# EAGLE library part INTEL_JOULE_J7 (library joule_shield)
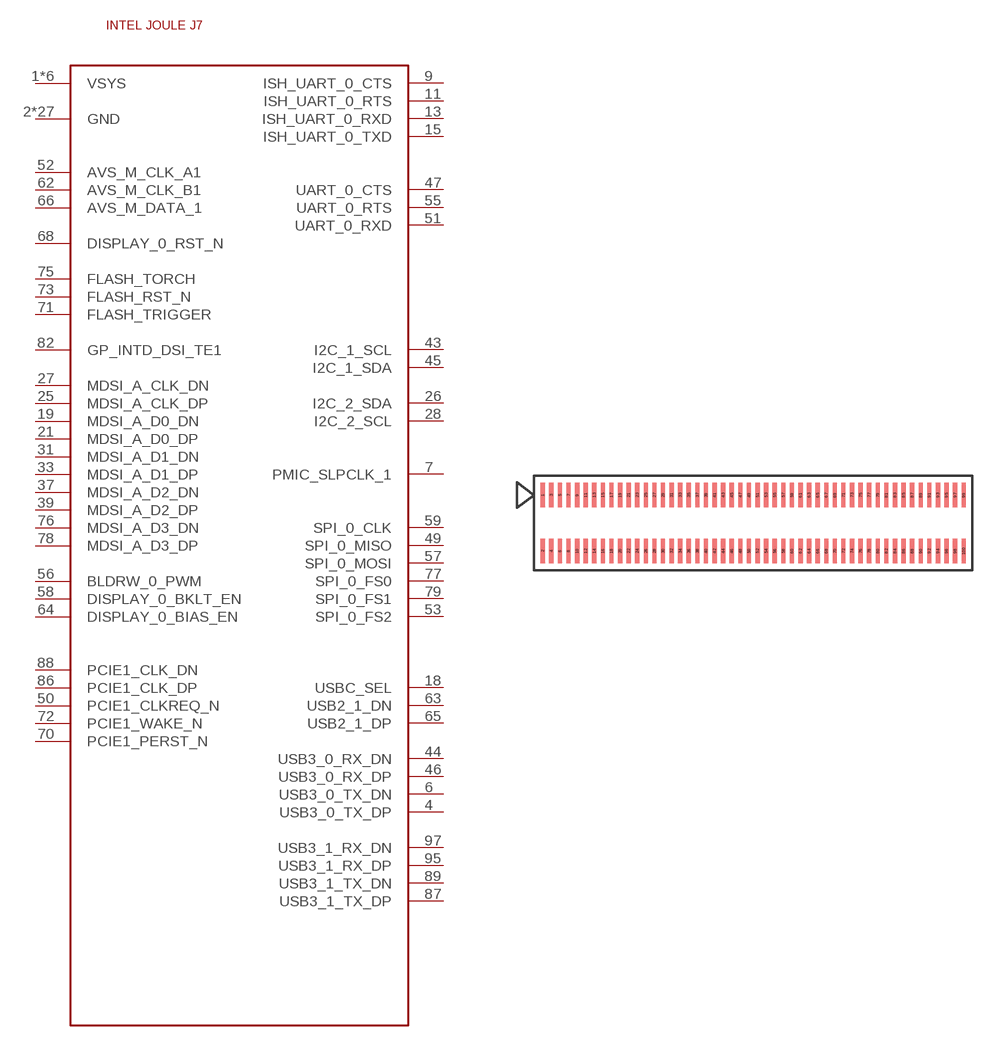
[diagram p1: symbol with the pads of HIROSE-40C-100DS; footprint HIROSE-40C-100DS]

Designator prefix -

## INTEL_JOULE_J7  [HIROSE-40C-100DS]
1  VSYS
2  GND
3  VSYS
4  USB3_0_TX_DP
5  GND
6  USB3_0_TX_DN
7  PMIC_SLPCLK_1
8  GND
9  ISH_UART_0_CTS
10  GND
11  ISH_UART_0_RTS
13  ISH_UART_0_RXD
15  ISH_UART_0_TXD
16  GND
17  GND
18  USBC_SEL
19  MDSI_A_D0_DN
20  VSYS
21  MDSI_A_D0_DP
22  VSYS
23  GND
24  GND
25  MDSI_A_CLK_DP
26  I2C_2_SDA
27  MDSI_A_CLK_DN
28  I2C_2_SCL
29  GND
30  GND
31  MDSI_A_D1_DN
32  VSYS
33  MDSI_A_D1_DP
34  VSYS
35  GND
36  GND
37  MDSI_A_D2_DN
39  MDSI_A_D2_DP
41  GND
42  GND
43  I2C_1_SCL
44  USB3_0_RX_DN
45  I2C_1_SDA
46  USB3_0_RX_DP
47  UART_0_CTS
49  SPI_0_MISO
50  PCIE1_CLKREQ_N
51  UART_0_RXD
52  AVS_M_CLK_A1
53  SPI_0_FS2
54  GND
55  UART_0_RTS
56  BLDRW_0_PWM
57  SPI_0_MOSI
58  DISPLAY_0_BKLT_EN
59  SPI_0_CLK
60  GND
61  GND
62  AVS_M_CLK_B1
63  USB2_1_DN
64  DISPLAY_0_BIAS_EN
65  USB2_1_DP
66  AVS_M_DATA_1
67  GND
68  DISPLAY_0_RST_N
70  PCIE1_PERST_N
71  FLASH_TRIGGER
72  PCIE1_WAKE_N
73  FLASH_RST_N
74  GND
75  FLASH_TORCH
76  MDSI_A_D3_DN
77  SPI_0_FS0
78  MDSI_A_D3_DP
79  SPI_0_FS1
80  GND
82  GP_INTD_DSI_TE1
84  GND
85  GND
86  PCIE1_CLK_DP
87  USB3_1_TX_DP
88  PCIE1_CLK_DN
89  USB3_1_TX_DN
90  GND
91  GND
93  GND
95  USB3_1_RX_DP
96  GND
97  USB3_1_RX_DN
99  GND

## Footprint HIROSE-40C-100DS (pad centres in mm)
smd 0.2 x 1.14: 1 -9.8,1.3; 2 -9.8,-1.3; 3 -9.4,1.3; 4 -9.4,-1.3; 5 -9,1.3; 6 -9,-1.3; 7 -8.6,1.3; 8 -8.6,-1.3; 9 -8.2,1.3; 10 -8.2,-1.3; 11 -7.8,1.3; 12 -7.8,-1.3; 13 -7.4,1.3; 14 -7.4,-1.3; 15 -7,1.3; 16 -7,-1.3; 17 -6.6,1.3; 18 -6.6,-1.3; 19 -6.2,1.3; 20 -6.2,-1.3; 21 -5.8,1.3; 22 -5.8,-1.3; 23 -5.4,1.3; 24 -5.4,-1.3; 25 -5,1.3; 26 -5,-1.3; 27 -4.6,1.3; 28 -4.6,-1.3; 29 -4.2,1.3; 30 -4.2,-1.3; 31 -3.8,1.3; 32 -3.8,-1.3; 33 -3.4,1.3; 34 -3.4,-1.3; 35 -3,1.3; 36 -3,-1.3; 37 -2.6,1.3; 38 -2.6,-1.3; 39 -2.2,1.3; 40 -2.2,-1.3; 41 -1.8,1.3; 42 -1.8,-1.3; 43 -1.4,1.3; 44 -1.4,-1.3; 45 -1,1.3; 46 -1,-1.3; 47 -0.6,1.3; 48 -0.6,-1.3; 49 -0.2,1.3; 50 -0.2,-1.3; 51 0.2,1.3; 52 0.2,-1.3; 53 0.6,1.3; 54 0.6,-1.3; 55 1,1.3; 56 1,-1.3; 57 1.4,1.3; 58 1.4,-1.3; 59 1.8,1.3; 60 1.8,-1.3; 61 2.2,1.3; 62 2.2,-1.3; 63 2.6,1.3; 64 2.6,-1.3; 65 3,1.3; 66 3,-1.3; 67 3.4,1.3; 68 3.4,-1.3; 69 3.8,1.3; 70 3.8,-1.3; 71 4.2,1.3; 72 4.2,-1.3; 73 4.6,1.3; 74 4.6,-1.3; 75 5,1.3; 76 5,-1.3; 77 5.4,1.3; 78 5.4,-1.3; 79 5.8,1.3; 80 5.8,-1.3; 81 6.2,1.3; 82 6.2,-1.3; 83 6.6,1.3; 84 6.6,-1.3; 85 7,1.3; 86 7,-1.3; 87 7.4,1.3; 88 7.4,-1.3; 89 7.8,1.3; 90 7.8,-1.3; 91 8.2,1.3; 92 8.2,-1.3; 93 8.6,1.3; 94 8.6,-1.3; 95 9,1.3; 96 9,-1.3; 97 9.4,1.3; 98 9.4,-1.3; 99 9.8,1.3; 100 9.8,-1.3